# EAGLE library part MSP430G2*55 (library MDB_HOMEBAK)
MIXED SIGNAL MICROCONTROLLERSource: http://www.ti.com/lit/ds/symlink/msp430g2955.pdf Check Pinout
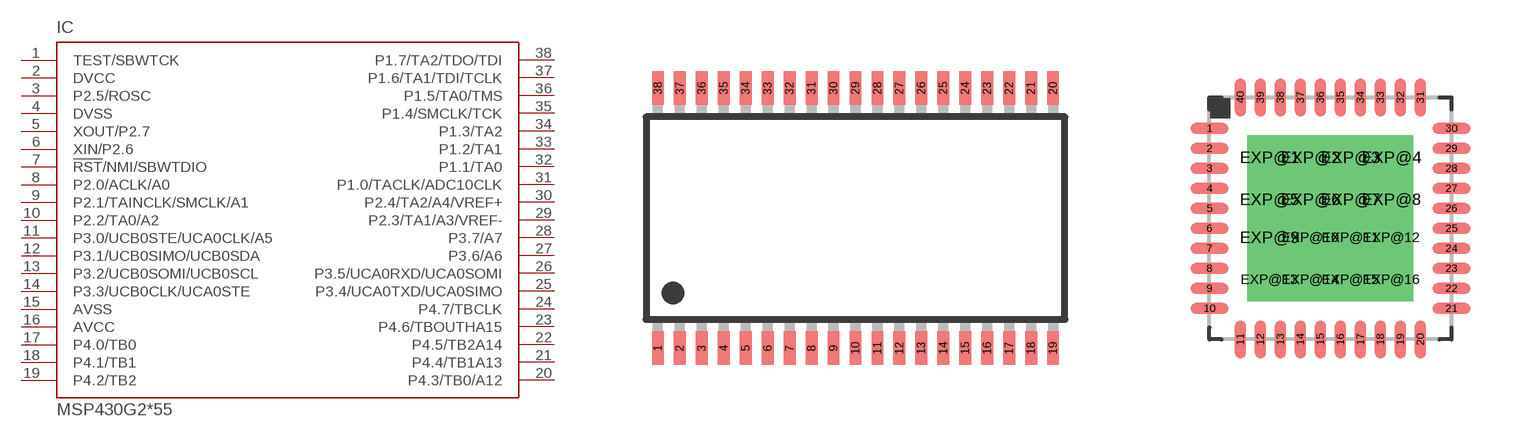
[diagram p54: symbol with the pads of TSSOP38_R-PDSO-G38-DA; footprints TSSOP38_R-PDSO-G38-DA, QFN40-6X6]

Designator prefix IC

## MSP430G2755IDA38 (FLASH_KB: 32), MSP430G2855IDA38 (FLASH_KB: 48), MSP430G2955IDA38 (FLASH_KB: 56)  [TSSOP38_R-PDSO-G38-DA]
1  TEST/SBWTCK  in
2  DVCC  pwr
3  P2.5/ROSC
4  DVSS  pwr
5  XOUT/P2.7
6  XIN/P2.6
7  !RST!/NMI/SBWTDIO  in
8  P2.0/ACLK/A0
9  P2.1/TAINCLK/SMCLK/A1
10  P2.2/TA0/A2
11  P3.0/UCB0STE/UCA0CLK/A5
12  P3.1/UCB0SIMO/UCB0SDA
13  P3.2/UCB0SOMI/UCB0SCL
14  P3.3/UCB0CLK/UCA0STE
15  AVSS  pwr
16  AVCC  pwr
17  P4.0/TB0
18  P4.1/TB1
19  P4.2/TB2
20  P4.3/TB0/A12
21  P4.4/TB1A13
22  P4.5/TB2A14
23  P4.6/TBOUTHA15
24  P4.7/TBCLK
25  P3.4/UCA0TXD/UCA0SIMO
26  P3.5/UCA0RXD/UCA0SOMI
27  P3.6/A6
28  P3.7/A7
29  P2.3/TA1/A3/VREF-
30  P2.4/TA2/A4/VREF+
31  P1.0/TACLK/ADC10CLK
32  P1.1/TA0
33  P1.2/TA1
34  P1.3/TA2
35  P1.4/SMCLK/TCK
36  P1.5/TA0/TMS
37  P1.6/TA1/TDI/TCLK
38  P1.7/TA2/TDO/TDI

## MSP430G255IRHA40  [QFN40-6X6]
1  DVSS  pwr
2  XOUT/P2.7
3  XIN/P2.6
4  DVSS  pwr
5  !RST!/NMI/SBWTDIO  in
6  P2.0/ACLK/A0
7  P2.1/TAINCLK/SMCLK/A1
8  P2.2/TA0/A2
9  P3.0/UCB0STE/UCA0CLK/A5
10  P3.1/UCB0SIMO/UCB0SDA
11  P3.2/UCB0SOMI/UCB0SCL
12  P3.3/UCB0CLK/UCA0STE
13  AVSS  pwr
14  AVCC  pwr
15  P4.0/TB0
16  P4.1/TB1
17  P4.2/TB2
18  P4.3/TB0/A12
19  P4.4/TB1A13
20  P4.5/TB2A14
21  P4.6/TBOUTHA15
22  P4.7/TBCLK
23  P3.4/UCA0TXD/UCA0SIMO
24  P3.5/UCA0RXD/UCA0SOMI
25  P3.6/A6
26  P3.7/A7
27  P2.3/TA1/A3/VREF-
28  P2.4/TA2/A4/VREF+
29  P1.0/TACLK/ADC10CLK
30  P1.1/TA0
31  P1.2/TA1
32  P1.3/TA2
33  P1.4/SMCLK/TCK
34  P1.5/TA0/TMS
35  P1.6/TA1/TDI/TCLK
36  P1.7/TA2/TDO/TDI
37  TEST/SBWTCK  in
38  DVCC  pwr
39  DVCC  pwr
40  P2.5/ROSC
EXP@1  DVSS  pwr
EXP@2  DVSS  pwr
EXP@3  DVSS  pwr
EXP@4  DVSS  pwr
EXP@5  DVSS  pwr
EXP@6  DVSS  pwr
EXP@7  DVSS  pwr
EXP@8  DVSS  pwr
EXP@9  DVSS  pwr
EXP@10  DVSS  pwr
EXP@11  DVSS  pwr
EXP@12  DVSS  pwr
EXP@13  DVSS  pwr
EXP@14  DVSS  pwr
EXP@15  DVSS  pwr
EXP@16  DVSS  pwr

## Footprint TSSOP38_R-PDSO-G38-DA (pad centres in mm)
TSSOP 38 DA (R-PDSO-G38) Auto generated by make-symbol-device-package-bsdl.ulp Rev. 28 Source: http://focus.ti.com/lit/ds/symlink/msp430f2274.pdf
smd 0.35 x 1: 1 -5.85,-3.85; 2 -5.2,-3.85; 3 -4.55,-3.85; 4 -3.9,-3.85; 5 -3.25,-3.85; 6 -2.6,-3.85; 7 -1.95,-3.85; 8 -1.3,-3.85; 9 -0.65,-3.85; 10 0,-3.85; 11 0.65,-3.85; 12 1.3,-3.85; 13 1.95,-3.85; 14 2.6,-3.85; 15 3.25,-3.85; 16 3.9,-3.85; 17 4.55,-3.85; 18 5.2,-3.85; 19 5.85,-3.85; 20 5.85,3.85; 21 5.2,3.85; 22 4.55,3.85; 23 3.9,3.85; 24 3.25,3.85; 25 2.6,3.85; 26 1.95,3.85; 27 1.3,3.85; 28 0.65,3.85; 29 0,3.85; 30 -0.65,3.85; 31 -1.3,3.85; 32 -1.95,3.85; 33 -2.6,3.85; 34 -3.25,3.85; 35 -3.9,3.85; 36 -4.55,3.85; 37 -5.2,3.85; 38 -5.85,3.85

## Footprint QFN40-6X6 (pad centres in mm)
RHA (S-PQFP-N40) 6 x 6 mm Source: http://focus.ti.com/lit/ds/symlink/tps65020.pdf
smd 0.95 x 0.28: 1 -3.025,2.25; 2 -3.025,1.75; 3 -3.025,1.25; 4 -3.025,0.75; 5 -3.025,0.25; 6 -3.025,-0.25; 7 -3.025,-0.75; 8 -3.025,-1.25; 9 -3.025,-1.75; 10 -3.025,-2.25; 21 3.025,-2.25; 22 3.025,-1.75; 23 3.025,-1.25; 24 3.025,-0.75; 25 3.025,-0.25; 26 3.025,0.25; 27 3.025,0.75; 28 3.025,1.25; 29 3.025,1.75; 30 3.025,2.25
smd 0.28 x 0.95: 11 -2.25,-3.025; 12 -1.75,-3.025; 13 -1.25,-3.025; 14 -0.75,-3.025; 15 -0.25,-3.025; 16 0.25,-3.025; 17 0.75,-3.025; 18 1.25,-3.025; 19 1.75,-3.025; 20 2.25,-3.025; 31 2.25,3.025; 32 1.75,3.025; 33 1.25,3.025; 34 0.75,3.025; 35 0.25,3.025; 36 -0.25,3.025; 37 -0.75,3.025; 38 -1.25,3.025; 39 -1.75,3.025; 40 -2.25,3.025
drill 0.3 pad 1.1 square: EXP@1 -1.525,1.525; EXP@2 -0.5,1.525; EXP@3 0.5,1.525; EXP@4 1.525,1.525; EXP@5 -1.525,0.475; EXP@6 -0.5,0.475; EXP@7 0.5,0.475; EXP@8 1.525,0.475; EXP@9 -1.525,-0.475; EXP@10 -0.5,-0.475; EXP@11 0.5,-0.475; EXP@12 1.525,-0.475; EXP@13 -1.525,-1.525; EXP@14 -0.5,-1.525; EXP@15 0.5,-1.525; EXP@16 1.525,-1.525